# Altium footprint library 74_series.PcbLib: 2 footprints
Each footprint in its own frame and in the unit in brackets; x right, y up, seen from the top. Pads: shape width x height; smd on the part's side, far side on the other; paste and mask are expansions set on the pad; w line width, h text height; cw(c..) or ccw(c..) is an arc to the next point about the centre after c.
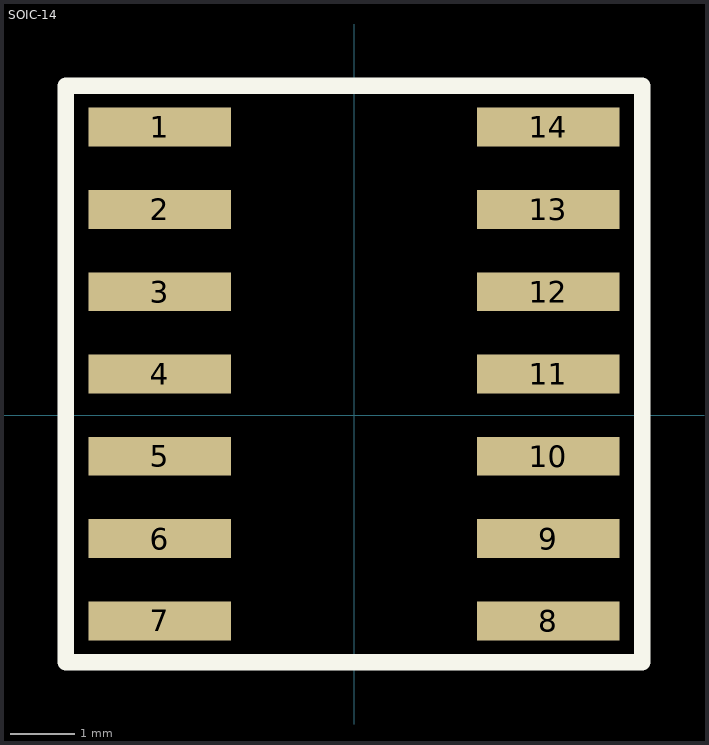
[diagram p0: the footprints below, top view; thin cyan lines are the x and y axes]

## PCBComponent_1 [mm]

## SOIC-14 [mm]
pads (14):
  rect 2.2x0.6 smd: 1(-3,4.445) 2(-3,3.175) 3(-3,1.905) 4(-3,0.635) 5(-3,-0.635) 6(-3,-1.905) 7(-3,-3.175) 8(3,-3.175) 9(3,-1.905) 10(3,-0.635) 11(3,0.635) 12(3,1.905) 13(3,3.175) 14(3,4.445)
Top Overlay:
  lines w0.254: -4.445,-3.81 -4.445,5.08 4.445,5.08 4.445,-3.81 -4.445,-3.81
3D body "SOIC14-150-1.step": height 1.75, standoff 0, extent -2.9,-3.63 2.9,4.9